# EAGLE library part AS-ITM-00097 (library tinycircuits)
IC SENSOR LIGHTNING MLPQ-16
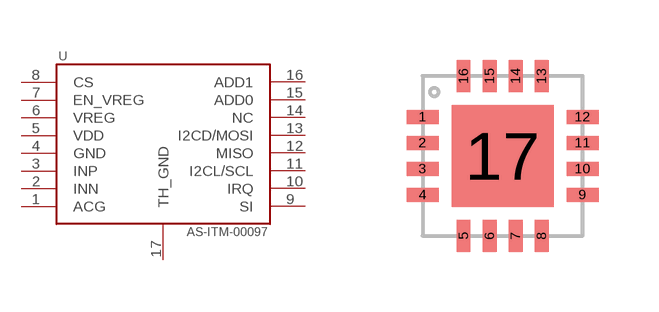
[diagram p40: symbol with the pads of AS3935; footprint AS3935]

Designator prefix U

## AS-ITM-00097 (PARTNO: AS-ITM-00097; VALUE: AS3935)  [AS3935]
1  ACG
2  INN
3  INP
4  GND
5  VDD
6  VREG
7  EN_VREG
8  CS
9  SI
10  IRQ
11  I2CL/SCL
12  MISO
13  I2CD/MOSI
14  NC
15  ADD0
16  ADD1
17  TH_GND

## Footprint AS3935 (pad centres in mm)
smd 0.8 x 0.35: 1 0,2.975; 2 0,2.325; 3 0,1.675; 4 0,1.025; 9 4,1.025; 10 4,1.675; 11 4,2.325; 12 4,2.975
smd 0.35 x 0.8: 5 1.025,0; 6 1.675,0; 7 2.325,0; 8 2.975,0; 13 2.975,4; 14 2.325,4; 15 1.675,4; 16 1.025,4
smd 2.55 x 2.55: 17 2,2